# EAGLE library part COMMS-ALT-AT42QT2120 (library AT42QT2120)
Atmel's AT42QT2120 in it's SOIC/TSSOP Comms Mode variants.
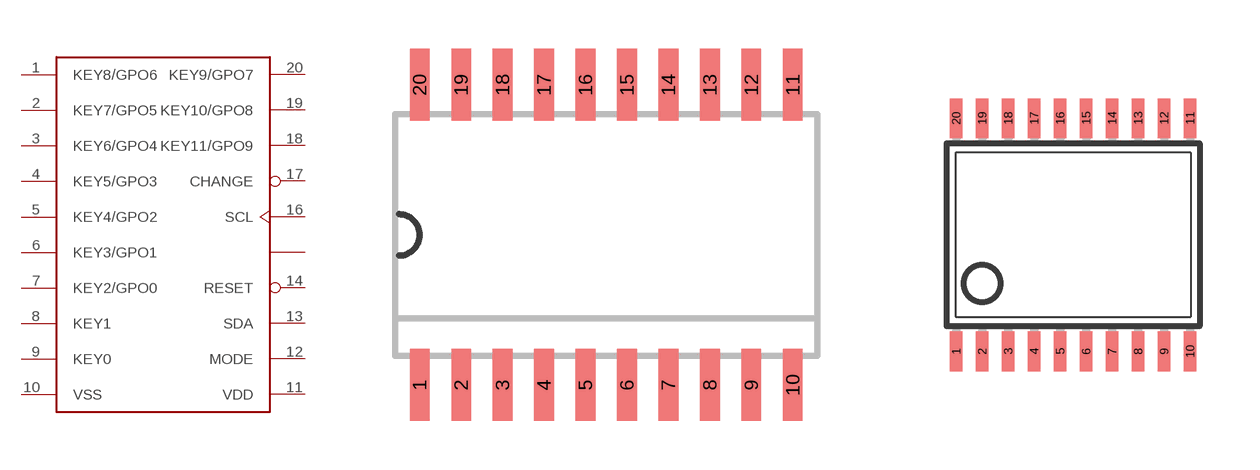
[diagram p0: symbol with the pads of SO20W; footprints SO20W, TSSOP20]

Designator prefix -

## COMMS-ALT-AT42QT2120-SU  [SO20W]
1  KEY8/GPO6
2  KEY7/GPO5
3  KEY6/GPO4
4  KEY5/GPO3
5  KEY4/GPO2
6  KEY3/GPO1
7  KEY2/GPO0
8  KEY1
9  KEY0
10  VSS  pwr
11  VDD  pwr
12  MODE  in
13  SDA  oc
14  RESET  in
15  NC  nc
16  SCL  oc
17  CHANGE  oc
18  KEY11/GPO9
19  KEY10/GPO8
20  KEY9/GPO7

## COMMS-ALT-AT42QT2120-XU  [TSSOP20]
Pads as for SO20W

## Footprint SO20W (pad centres in mm)
SMALL OUTLINE INTEGRATED CIRCUIT wide body 7.5 mm/JEDEC MS-013AC
smd 0.6 x 2.2: 1 -5.715,-4.6; 2 -4.445,-4.6; 3 -3.175,-4.6; 4 -1.905,-4.6; 5 -0.635,-4.6; 6 0.635,-4.6; 7 1.905,-4.6; 8 3.175,-4.6; 9 4.445,-4.6; 10 5.715,-4.6; 11 5.715,4.6; 12 4.445,4.6; 13 3.175,4.6; 14 1.905,4.6; 15 0.635,4.6; 16 -0.635,4.6; 17 -1.905,4.6; 18 -3.175,4.6; 19 -4.445,4.6; 20 -5.715,4.6

## Footprint TSSOP20 (pad centres in mm)
Thin Shrink Small Outline Plastic 20 MAX3223-MAX3243.pdf
smd 0.305 x 0.991: 1 -2.925,-2.918; 2 -2.275,-2.918; 3 -1.625,-2.918; 4 -0.975,-2.918; 5 -0.325,-2.918; 6 0.325,-2.918; 7 0.975,-2.918; 8 1.625,-2.918; 9 2.275,-2.918; 10 2.925,-2.918; 11 2.925,2.918; 12 2.275,2.918; 13 1.625,2.918; 14 0.975,2.918; 15 0.325,2.918; 16 -0.325,2.918; 17 -0.975,2.918; 18 -1.625,2.918; 19 -2.275,2.918; 20 -2.925,2.918